# EAGLE library part PCA9535 (library joakim)
16ch i/o expander. CD and CPW variants have open drain output and require external pull-up resistors Interrupt output requires external pull-up resistor for all variants. https://www.nxp.com/docs/en/data-sheet/PCA9535_PCA9535C.pdf
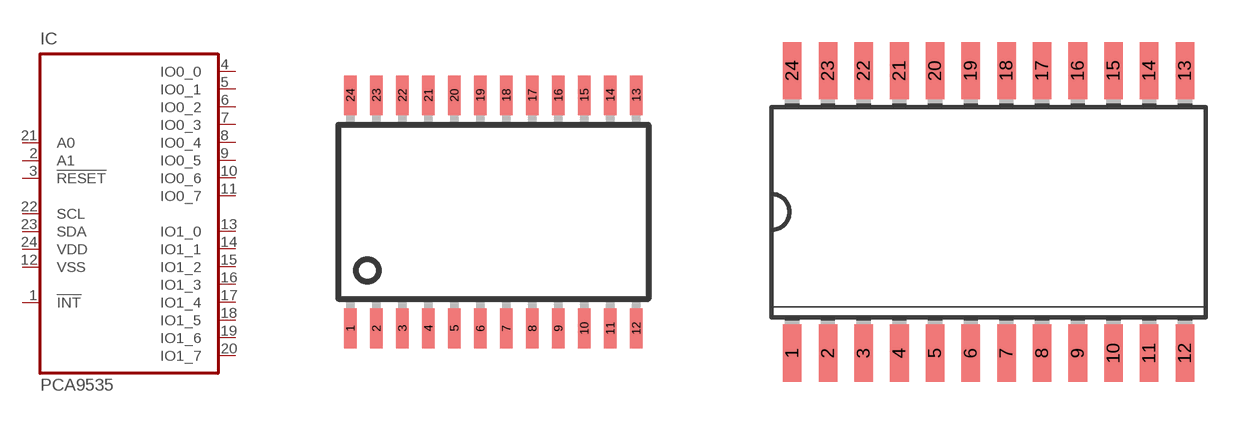
[diagram p72: symbol with the pads of TSSOP24J; footprints TSSOP24J, SO24RJ]

Designator prefix IC

## PCA9535PW  [TSSOP24J]
1  !INT
2  A1
3  !RESET
4  IO0_0
5  IO0_1
6  IO0_2
7  IO0_3
8  IO0_4
9  IO0_5
10  IO0_6
11  IO0_7
12  VSS  pwr
13  IO1_0
14  IO1_1
15  IO1_2
16  IO1_3
17  IO1_4
18  IO1_5
19  IO1_6
20  IO1_7
21  A0
22  SCL
23  SDA
24  VDD  pwr

## PCA9535CPW  [TSSOP24J]
Pads as for TSSOP24J

## PCA9535D  [SO24RJ]
Pads as for TSSOP24J

## PCA9535CD  [SO24RJ]
Pads as for TSSOP24J

## Footprint TSSOP24J (pad centres in mm)
24-Lead Thin Shrink Small Outline Package TSSOP (RU-24) Source: http://www.analog.com/UploadedFiles/Data_Sheets/39677768AD7714_c.pdf
smd 0.305 x 0.991: 1 -3.575,-2.918; 2 -2.925,-2.918; 3 -2.275,-2.918; 4 -1.625,-2.918; 5 -0.975,-2.918; 6 -0.325,-2.918; 7 0.325,-2.918; 8 0.975,-2.918; 9 1.625,-2.918; 10 2.275,-2.918; 11 2.925,-2.918; 12 3.575,-2.918; 13 3.575,2.918; 14 2.925,2.918; 15 2.275,2.918; 16 1.625,2.918; 17 0.975,2.918; 18 0.325,2.918; 19 -0.325,2.918; 20 -0.975,2.918; 21 -1.625,2.918; 22 -2.275,2.918; 23 -2.925,2.918; 24 -3.575,2.918

## Footprint SO24RJ (pad centres in mm)
24-Lead Wide Body SOIC (R-24) Source: http://www.analog.com/UploadedFiles/Data_Sheets/39677768AD7714_c.pdf
smd 0.66 x 2.032: 1 -6.985,-5.029; 2 -5.715,-5.029; 3 -4.445,-5.029; 4 -3.175,-5.029; 5 -1.905,-5.029; 6 -0.635,-5.029; 7 0.635,-5.029; 8 1.905,-5.029; 9 3.175,-5.029; 10 4.445,-5.029; 11 5.715,-5.029; 12 6.985,-5.029; 13 6.985,5.029; 14 5.715,5.029; 15 4.445,5.029; 16 3.175,5.029; 17 1.905,5.029; 18 0.635,5.029; 19 -0.635,5.029; 20 -1.905,5.029; 21 -3.175,5.029; 22 -4.445,5.029; 23 -5.715,5.029; 24 -6.985,5.029